# Altium schematic symbol library Temp Sensirion assy FPC.SCHLIB: 2 symbols
Pins are listed as number, name and electrical type; pins without a type are passive.

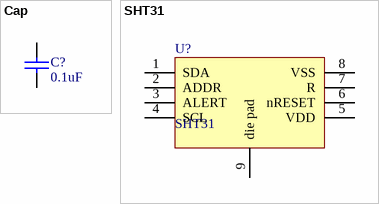
[diagram p0: symbols Cap to SHT31]

## Cap
designator C?, comment 0.1uF
0402; Published: 8-Jun-2000; Revision: July-2002: Re-released for DXP Platform.; Publisher: Altium Limited
simulation model CAP (Semiconductor Capacitor)
signal-integrity model Cap Semi
footprint CR0805
footprint CR1206
footprint CAP900
footprint CAP1500
footprint CY2
footprint CY3
footprint CAP400
footprint 106K250
footprint CAP1500 - (42x14)
footprint B32676
footprint B32774
footprint CR0603
footprint SM/C_1812
footprint Model Name (Footprint not found)
footprint SM/C_1210
footprint CYLND
footprint 0603C
footprint 0402C
pins: 1, 2

## SHT31
designator U?
厂家：盛思睿，型号：SHT31
footprint DFN3*3
pins: 1 SDA, 2 ADDR, 3 ALERT, 4 SCL, 5 VDD, 6 nRESET, 7 R, 8 VSS, 9 die pad